# Altium schematic symbol library TP4056Module_Schema.SchLib: 1 symbol
Pins are listed as number, name and electrical type; pins without a type are passive.

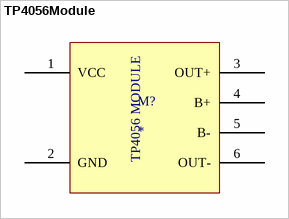
[diagram p0: symbol TP4056Module]

## TP4056Module
designator M?
TP4056 Module for managing baterry charging
footprint TP4056Module
pins: 1 VCC, 2 GND, 3 OUT+, 4 B+, 5 B-, 6 OUT-
text: TP4056 MODULE